# EAGLE library part 87759-44_S (library untitled)
HEADER
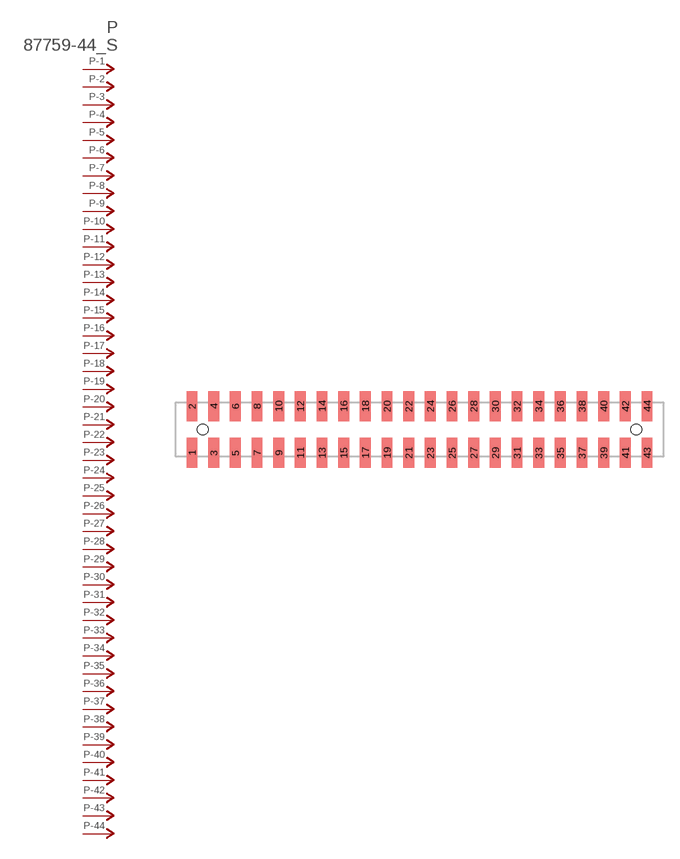
[diagram p377: symbol with the pads of 87759-44; footprint 87759-44]

Designator prefix P; gates -1=P-NV -2=P-N -3=P-N -4=P-N -5=P-N -6=P-N -7=P-N -8=P-N -9=P-N -10=P-N -11=P-N -12=P-N -13=P-N -14=P-N -15=P-N -16=P-N -17=P-N -18=P-N -19=P-N -20=P-N -21=P-N -22=P-N -23=P-N -24=P-N -25=P-N -26=P-N -27=P-N -28=P-N -29=P-N -30=P-N -31=P-N -32=P-N -33=P-N -34=P-N -35=P-N -36=P-N -37=P-N -38=P-N -39=P-N -40=P-N -41=P-N -42=P-N -43=P-N -44=P-N

## 87759-44_S  [87759-44]
1  -1:P  pas
2  -2:P  pas
3  -3:P  pas
4  -4:P  pas
5  -5:P  pas
6  -6:P  pas
7  -7:P  pas
8  -8:P  pas
9  -9:P  pas
10  -10:P  pas
11  -11:P  pas
12  -12:P  pas
13  -13:P  pas
14  -14:P  pas
15  -15:P  pas
16  -16:P  pas
17  -17:P  pas
18  -18:P  pas
19  -19:P  pas
20  -20:P  pas
21  -21:P  pas
22  -22:P  pas
23  -23:P  pas
24  -24:P  pas
25  -25:P  pas
26  -26:P  pas
27  -27:P  pas
28  -28:P  pas
29  -29:P  pas
30  -30:P  pas
31  -31:P  pas
32  -32:P  pas
33  -33:P  pas
34  -34:P  pas
35  -35:P  pas
36  -36:P  pas
37  -37:P  pas
38  -38:P  pas
39  -39:P  pas
40  -40:P  pas
41  -41:P  pas
42  -42:P  pas
43  -43:P  pas
44  -44:P  pas

## Footprint 87759-44 (pad centres in mm)
HEADER SMD Dual Row, Vertical
smd 1 x 2.75: 1 -21,-2.15; 2 -21,2.15; 3 -19,-2.15; 4 -19,2.15; 5 -17,-2.15; 6 -17,2.15; 7 -15,-2.15; 8 -15,2.15; 9 -13,-2.15; 10 -13,2.15; 11 -11,-2.15; 12 -11,2.15; 13 -9,-2.15; 14 -9,2.15; 15 -7,-2.15; 16 -7,2.15; 17 -5,-2.15; 18 -5,2.15; 19 -3,-2.15; 20 -3,2.15; 21 -1,-2.15; 22 -1,2.15; 23 1,-2.15; 24 1,2.15; 25 3,-2.15; 26 3,2.15; 27 5,-2.15; 28 5,2.15; 29 7,-2.15; 30 7,2.15; 31 9,-2.15; 32 9,2.15; 33 11,-2.15; 34 11,2.15; 35 13,-2.15; 36 13,2.15; 37 15,-2.15; 38 15,2.15; 39 17,-2.15; 40 17,2.15; 41 19,-2.15; 42 19,2.15; 43 21,-2.15; 44 21,2.15
hole 1 at -20,0
hole 1 at 20,0